# EAGLE library part MODULE_V1 (library mestrado)
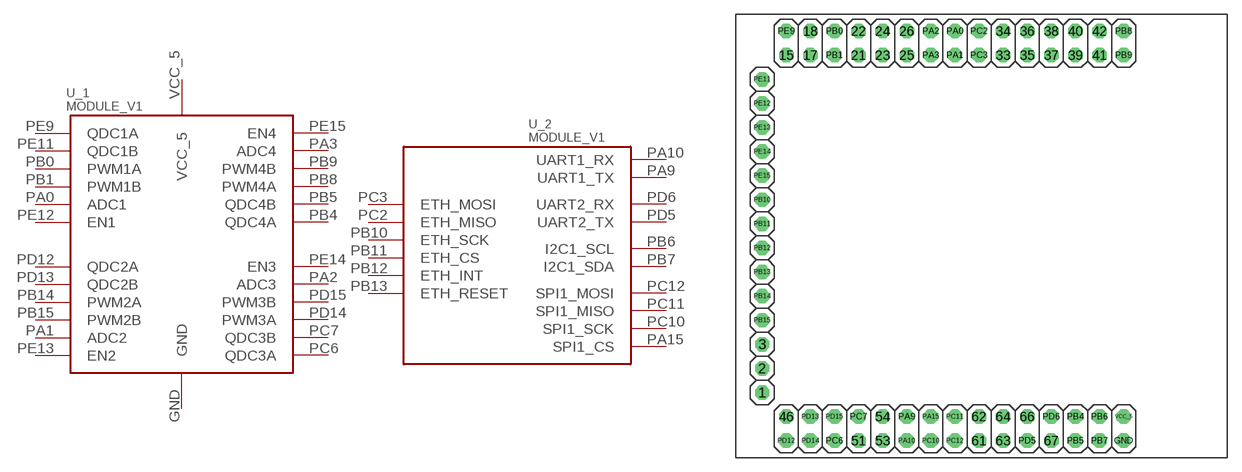
[diagram p10: symbol with the pads of MODULE_STM32F407; footprint MODULE_STM32F407]

Designator prefix U; gates _1=MODULE_V1_SENSORS _2=MODULE_V1_COMM

## MODULE_V1  [MODULE_STM32F407]
GND  _1:GND
PA0  _1:ADC1
PA1  _1:ADC2
PA2  _1:ADC3
PA3  _1:ADC4
PA9  _2:UART1_TX
PA10  _2:UART1_RX
PA15  _2:SPI1_CS
PB0  _1:PWM1A
PB1  _1:PWM1B
PB4  _1:QDC4A
PB5  _1:QDC4B
PB6  _2:I2C1_SCL
PB7  _2:I2C1_SDA
PB8  _1:PWM4A
PB9  _1:PWM4B
PB10  _2:ETH_SCK
PB11  _2:ETH_CS
PB12  _2:ETH_INT
PB13  _2:ETH_RESET
PB14  _1:PWM2A
PB15  _1:PWM2B
PC2  _2:ETH_MISO
PC3  _2:ETH_MOSI
PC6  _1:QDC3A
PC7  _1:QDC3B
PC10  _2:SPI1_SCK
PC11  _2:SPI1_MISO
PC12  _2:SPI1_MOSI
PD5  _2:UART2_TX
PD6  _2:UART2_RX
PD12  _1:QDC2A
PD13  _1:QDC2B
PD14  _1:PWM3A
PD15  _1:PWM3B
PE9  _1:QDC1A
PE11  _1:QDC1B
PE12  _1:EN1
PE13  _1:EN2
PE14  _1:EN3
PE15  _1:EN4
VCC_5  _1:VCC_5

## Footprint MODULE_STM32F407 (pad centres in mm)
drill 1.016 octagon: 1 2.794,6.858; 2 2.794,9.398; 3 2.794,11.938; 15 5.334,42.418; 17 7.874,42.418; 18 7.874,44.958; 21 12.954,42.418; 22 12.954,44.958; 23 15.494,42.418; 24 15.494,44.958; 25 18.034,42.418; 26 18.034,44.958; 33 28.194,42.418; 34 28.194,44.958; 35 30.734,42.418; 36 30.734,44.958; 37 33.274,42.418; 38 33.274,44.958; 39 35.814,42.418; 40 35.814,44.958; 41 38.354,42.418; 42 38.354,44.958; 46 5.334,4.318; 51 12.954,1.778; 53 15.494,1.778; 54 15.494,4.318; 61 25.654,1.778; 62 25.654,4.318; 63 28.194,1.778; 64 28.194,4.318; 66 30.734,4.318; 67 33.274,1.778; GND 40.894,1.778; PA0 23.114,44.958; PA1 23.114,42.418; PA2 20.574,44.958; PA3 20.574,42.418; PA9 18.034,4.318; PA10 18.034,1.778; PA15 20.574,4.318; PB0 10.414,44.958; PB1 10.414,42.418; PB4 35.814,4.318; PB5 35.814,1.778; PB6 38.354,4.318; PB7 38.354,1.778; PB8 40.894,44.958; PB9 40.894,42.418; PB10 2.794,27.178; PB11 2.794,24.638; PB12 2.794,22.098; PB13 2.794,19.558; PB14 2.794,17.018; PB15 2.794,14.478; PC2 25.654,44.958; PC3 25.654,42.418; PC6 10.414,1.778; PC7 12.954,4.318; PC10 20.574,1.778; PC11 23.114,4.318; PC12 23.114,1.778; PD5 30.734,1.778; PD6 33.274,4.318; PD12 5.334,1.778; PD13 7.874,4.318; PD14 7.874,1.778; PD15 10.414,4.318; PE9 5.334,44.958; PE11 2.794,39.878; PE12 2.794,37.338; PE13 2.794,34.798; PE14 2.794,32.258; PE15 2.794,29.718; VCC_5 40.894,4.318